# Altium footprint library ilk.PcbLib: 78 footprints (part 5 of 5)
Each footprint in its own frame and in the unit in brackets; x right, y up, seen from the top. Pads: shape width x height; smd on the part's side, far side on the other; paste and mask are expansions set on the pad; w line width, h text height; cw(c..) or ccw(c..) is an arc to the next point about the centre after c.
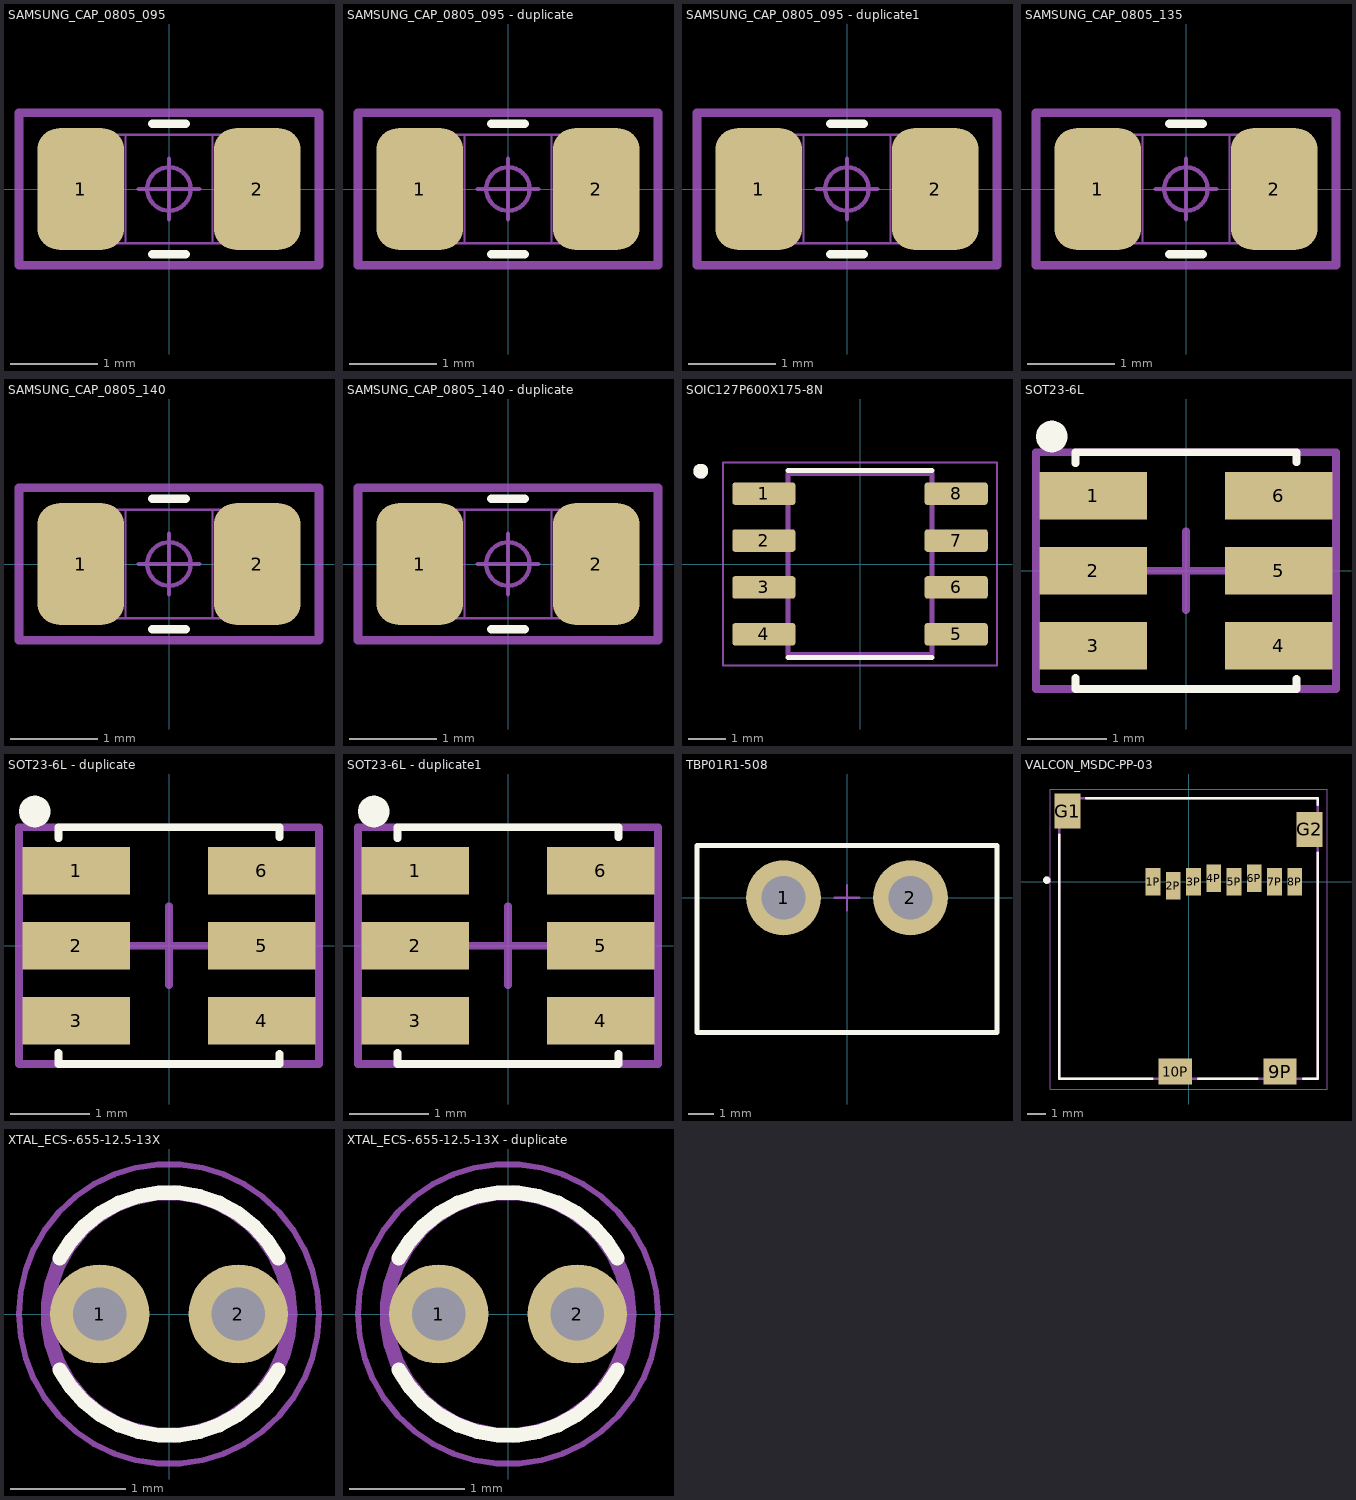
[diagram p4: the footprints below, top view; thin cyan lines are the x and y axes]

## SAMSUNG_CAP_0805_095 [mm]
pads (2):
  rrect50% 1x1.4 smd paste+0 mask+0.04: 1(-1.016,0) 2(1.016,0)
Top Overlay:
  lines w0.1: -0.192,-0.752 0.192,-0.752 ; -0.192,0.752 0.192,0.752
Mechanical 13:
  lines w0.025: -1,-0.625 -1,0.625 ; -1,-0.625 -0.5,-0.625 -0.5,0.625 -1,0.625 ; -1,-0.625 1,-0.625 ; -1,-0.625 -1,0.625 ; -1,0.625 1,0.625 ; 1,-0.625 0.5,-0.625 0.5,0.625 1,0.625 ; 1,-0.625 1,0.625 ; 1,-0.625 1,0.625
Mechanical 15:
  circle w0.05: c0,0 r0.25
  lines w0.05: -0.35,0 0.35,0 ; 0,-0.35 0,0.35
  lines w0.1: -1.727,-0.879 -1.727,0.879 1.727,0.879 1.727,-0.879 -1.727,-0.879
3D body "CAP_0805_095.step": height 0.96, standoff -0.01, extent -1,-0.635 1,0.639

## SAMSUNG_CAP_0805_095 - duplicate [mm]
pads (2):
  rrect50% 1x1.4 smd paste+0 mask+0.04: 1(-1.016,0) 2(1.016,0)
Top Overlay:
  lines w0.1: -0.192,-0.752 0.192,-0.752 ; -0.192,0.752 0.192,0.752
Mechanical 13:
  lines w0.025: -1,-0.625 -1,0.625 ; -1,-0.625 -0.5,-0.625 -0.5,0.625 -1,0.625 ; -1,-0.625 1,-0.625 ; -1,-0.625 -1,0.625 ; -1,0.625 1,0.625 ; 1,-0.625 0.5,-0.625 0.5,0.625 1,0.625 ; 1,-0.625 1,0.625 ; 1,-0.625 1,0.625
Mechanical 15:
  circle w0.05: c0,0 r0.25
  lines w0.05: -0.35,0 0.35,0 ; 0,-0.35 0,0.35
  lines w0.1: -1.727,-0.879 -1.727,0.879 1.727,0.879 1.727,-0.879 -1.727,-0.879
3D body "CAP_0805_095.step": height 0.96, standoff -0.01, extent -1,-0.635 1,0.639

## SAMSUNG_CAP_0805_095 - duplicate1 [mm]
pads (2):
  rrect50% 1x1.4 smd paste+0 mask+0.04: 1(-1.016,0) 2(1.016,0)
Top Overlay:
  lines w0.1: -0.192,-0.752 0.192,-0.752 ; -0.192,0.752 0.192,0.752
Mechanical 13:
  lines w0.025: -1,-0.625 -1,0.625 ; -1,-0.625 -0.5,-0.625 -0.5,0.625 -1,0.625 ; -1,-0.625 1,-0.625 ; -1,-0.625 -1,0.625 ; -1,0.625 1,0.625 ; 1,-0.625 0.5,-0.625 0.5,0.625 1,0.625 ; 1,-0.625 1,0.625 ; 1,-0.625 1,0.625
Mechanical 15:
  circle w0.05: c0,0 r0.25
  lines w0.05: -0.35,0 0.35,0 ; 0,-0.35 0,0.35
  lines w0.1: -1.727,-0.879 -1.727,0.879 1.727,0.879 1.727,-0.879 -1.727,-0.879
3D body "CAP_0805_095.step": height 0.96, standoff -0.01, extent -1,-0.635 1,0.639

## SAMSUNG_CAP_0805_135 [mm]
pads (2):
  rrect50% 1x1.4 smd paste+0 mask+0.04: 1(-1.016,0) 2(1.016,0)
Top Overlay:
  lines w0.1: -0.192,-0.752 0.192,-0.752 ; -0.192,0.752 0.192,0.752
Mechanical 13:
  lines w0.025: -1,-0.625 -1,0.625 ; -1,-0.625 -0.5,-0.625 -0.5,0.625 -1,0.625 ; -1,-0.625 1,-0.625 ; -1,-0.625 -1,0.625 ; -1,0.625 1,0.625 ; 1,-0.625 0.5,-0.625 0.5,0.625 1,0.625 ; 1,-0.625 1,0.625 ; 1,-0.625 1,0.625
Mechanical 15:
  circle w0.05: c0,0 r0.25
  lines w0.05: -0.35,0 0.35,0 ; 0,-0.35 0,0.35
  lines w0.1: -1.727,-0.879 -1.727,0.879 1.727,0.879 1.727,-0.879 -1.727,-0.879
3D body "CAP_0805_135.step": height 1.36, standoff -0.01, extent -1,-0.639 1,0.635

## SAMSUNG_CAP_0805_140 [mm]
pads (2):
  rrect50% 1x1.4 smd paste+0 mask+0.04: 1(-1.016,0) 2(1.016,0)
Top Overlay:
  lines w0.1: -0.192,-0.752 0.192,-0.752 ; -0.192,0.752 0.192,0.752
Mechanical 13:
  lines w0.025: -1,-0.625 -1,0.625 ; -1,-0.625 1,-0.625 ; -1,-0.625 -0.5,-0.625 -0.5,0.625 -1,0.625 ; -1,-0.625 -1,0.625 ; -1,0.625 1,0.625 ; 1,-0.625 1,0.625 ; 1,-0.625 1,0.625 ; 1,-0.625 0.5,-0.625 0.5,0.625 1,0.625
Mechanical 15:
  circle w0.05: c0,0 r0.25
  lines w0.05: -0.35,0 0.35,0 ; 0,-0.35 0,0.35
  lines w0.1: -1.727,-0.879 1.727,-0.879 1.727,0.879 -1.727,0.879 -1.727,-0.879
3D body "CAP_0805_140.step": height 1.41, standoff -0.01, extent -1,-0.639 1,0.635

## SAMSUNG_CAP_0805_140 - duplicate [mm]
pads (2):
  rrect50% 1x1.4 smd paste+0 mask+0.04: 1(-1.016,0) 2(1.016,0)
Top Overlay:
  lines w0.1: -0.192,-0.752 0.192,-0.752 ; -0.192,0.752 0.192,0.752
Mechanical 13:
  lines w0.025: -1,-0.625 -1,0.625 ; -1,-0.625 1,-0.625 ; -1,-0.625 -0.5,-0.625 -0.5,0.625 -1,0.625 ; -1,-0.625 -1,0.625 ; -1,0.625 1,0.625 ; 1,-0.625 1,0.625 ; 1,-0.625 1,0.625 ; 1,-0.625 0.5,-0.625 0.5,0.625 1,0.625
Mechanical 15:
  circle w0.05: c0,0 r0.25
  lines w0.05: -0.35,0 0.35,0 ; 0,-0.35 0,0.35
  lines w0.1: -1.727,-0.879 1.727,-0.879 1.727,0.879 -1.727,0.879 -1.727,-0.879
3D body "CAP_0805_140.step": height 1.41, standoff -0.01, extent -1,-0.639 1,0.635

## SOIC127P600X175-8N [mm]
pads (8):
  rrect25% 1.71x0.61 smd: 1(-2.605,1.905) 2(-2.605,0.635) 3(-2.605,-0.635) 4(-2.605,-1.905) 5(2.605,-1.905) 6(2.605,-0.635) 7(2.605,0.635) 8(2.605,1.905)
Top Overlay:
  circle w0.2: c-4.315,2.515 r0.1
  lines w0.127: -1.95,-2.53 1.95,-2.53 ; -1.95,2.53 1.95,2.53
Mechanical 13:
  circle w0.2: c-4.315,2.515 r0.1
  lines w0.127: -1.95,-2.45 -1.95,2.45 1.95,2.45 1.95,-2.45 -1.95,-2.45
Mechanical 15:
  lines w0.05: -3.71,-2.75 -3.71,2.75 3.71,2.75 3.71,-2.75 -3.71,-2.75
3D body "step_temp.STEP": height 1.73, standoff 0, extent -3,-2.445 3,2.445

## SOT23-6L [mm]
pads (6):
  rect 1.36x0.6 smd mask+0.05: 1(-1.175,0.95) 2(-1.175,0) 3(-1.175,-0.95) 4(1.175,-0.95) 5(1.175,0) 6(1.175,0.95)
Top Overlay:
  circle w0.2: c-1.7,1.7 r0.1
  lines w0.1: -1.4,-1.361 -1.4,-1.5 -1.3,-1.5 1.4,-1.5 1.4,-1.374 ; -1.4,1.361 -1.4,1.5 -1.3,1.5 1.4,1.5 1.4,1.374
Top Component Center:
  lines w0.1: -0.5,0 0.5,0 ; 0,-0.5 0,0.5 ; -1.9,-1.5 1.9,-1.5 1.9,1.5 -1.9,1.5 -1.9,-1.5
Top Designator:
  lines w0.1: -1.9,-1.5 1.9,-1.5 1.9,1.5 -1.9,1.5 -1.9,-1.5
  text "'.Designator'" at -1.88,-0.713 h1.4
3D body "USBLC6-2SC6.STEP": height 1.45, standoff 0, extent -1.4,-1.463 1.4,1.462

## SOT23-6L - duplicate [mm]
pads (6):
  rect 1.36x0.6 smd mask+0.05: 1(-1.175,0.95) 2(-1.175,0) 3(-1.175,-0.95) 4(1.175,-0.95) 5(1.175,0) 6(1.175,0.95)
Top Overlay:
  circle w0.2: c-1.7,1.7 r0.1
  lines w0.1: -1.4,-1.361 -1.4,-1.5 -1.3,-1.5 1.4,-1.5 1.4,-1.374 ; -1.4,1.361 -1.4,1.5 -1.3,1.5 1.4,1.5 1.4,1.374
Top Component Center:
  lines w0.1: -0.5,0 0.5,0 ; 0,-0.5 0,0.5 ; -1.9,-1.5 1.9,-1.5 1.9,1.5 -1.9,1.5 -1.9,-1.5
Top Designator:
  lines w0.1: -1.9,-1.5 1.9,-1.5 1.9,1.5 -1.9,1.5 -1.9,-1.5
  text "'.Designator'" at -1.88,-0.713 h1.4
3D body "USBLC6-2SC6.STEP": height 1.45, standoff 0, extent -1.4,-1.463 1.4,1.462

## SOT23-6L - duplicate1 [mm]
pads (6):
  rect 1.36x0.6 smd mask+0.05: 1(-1.175,0.95) 2(-1.175,0) 3(-1.175,-0.95) 4(1.175,-0.95) 5(1.175,0) 6(1.175,0.95)
Top Overlay:
  circle w0.2: c-1.7,1.7 r0.1
  lines w0.1: -1.4,-1.361 -1.4,-1.5 -1.3,-1.5 1.4,-1.5 1.4,-1.374 ; -1.4,1.361 -1.4,1.5 -1.3,1.5 1.4,1.5 1.4,1.374
Top Component Center:
  lines w0.1: -0.5,0 0.5,0 ; 0,-0.5 0,0.5 ; -1.9,-1.5 1.9,-1.5 1.9,1.5 -1.9,1.5 -1.9,-1.5
Top Designator:
  lines w0.1: -1.9,-1.5 1.9,-1.5 1.9,1.5 -1.9,1.5 -1.9,-1.5
  text "'.Designator'" at -1.88,-0.713 h1.4
3D body "USBLC6-2SC6.STEP": height 1.45, standoff 0, extent -1.4,-1.463 1.4,1.462

## TBP01R1-508 [mm]
pads (2):
  round 3 hole 1.75 mask+0.05: 1(-2.54,0) 2(2.54,0)
Top Overlay:
  lines w0.2: -6,-5.4 6,-5.4 6,-2.2 6,2.1 -6,2.1 -6,-5.4
Top Component Center:
  lines w0.1: -0.5,0 0.5,0 ; 0,-0.5 0,0.5 ; -6,-5.4 6,-5.4 6,2.1 -6,2.1 -6,-5.4
Top Designator:
  lines w0.1: -6,-5.4 6,-5.4 6,2.1 -6,2.1 -6,-5.4
  text "'.Designator'" at -3.746,-1.738 h1.52
3D body "CUI_DEVICES_TBP01R1-508-02BE.step": height 8.55, standoff -3.95, extent -5.88,-10 5.88,2

## VALCON_MSDC-PP-03 [mm]
pads (12):
  rect 0.8x1.5 smd: 1P(-1.925,0) 2P(-0.825,-0.2) 3P(0.275,0) 4P(1.375,0.2) 5P(2.475,0) 6P(3.575,0.2) 7P(4.675,0) 8P(5.775,0)
  rect 1.8x1.4 smd: 9P(4.975,-10.3) 10P(-0.725,-10.3)
  rect 1.4x1.9 smd: G1(-6.575,3.85) G2(6.575,2.85)
Top Overlay:
  circle w0.2: c-7.7,0.1 r0.1
  lines w0.127: -7.025,2.58 -7.025,-10.7 -1.97,-10.7 ; -5.55,4.55 7.025,4.55 7.025,4.2 ; 0.52,-10.7 3.73,-10.7 ; 6.22,-10.7 7.025,-10.7 7.025,1.58
Mechanical 13:
  circle w0.2: c-7.7,0.1 r0.1
  lines w0.127: -7.025,-10.7 -7.025,4.55 7.025,4.55 7.025,-10.7 -7.025,-10.7
Mechanical 15:
  lines w0.05: -7.525,-11.25 -7.525,5.05 7.525,5.05 7.525,-11.25 -7.525,-11.25
3D body "step_temp.STEP": height 1.85, standoff -0.03, extent -7.025,-7.625 7.025,7.625

## XTAL_ECS-.655-12.5-13X [mm]
pads (2):
  round 0.86 hole 0.46: 1(-0.6,0) 2(0.6,0)
Top Overlay:
  lines w0.127: -0.948,-0.484 ccw(c0,0.02) 0.948,-0.484 ; -0.948,0.484 cw(c0,-0.02) 0.948,0.484
Mechanical 13:
  circle w0.127: c0,0 r1.05
  circle w0.127: c0,0 r1.05
Mechanical 15:
  circle w0.05: c0,0 r1.3
3D body "step_temp.STEP": height 6.2, standoff -10, extent -1.05,-1.05 1.05,1.05

## XTAL_ECS-.655-12.5-13X - duplicate [mm]
pads (2):
  round 0.86 hole 0.46: 1(-0.6,0) 2(0.6,0)
Top Overlay:
  lines w0.127: -0.948,-0.484 ccw(c0,0.02) 0.948,-0.484 ; -0.948,0.484 cw(c0,-0.02) 0.948,0.484
Mechanical 13:
  circle w0.127: c0,0 r1.05
  circle w0.127: c0,0 r1.05
Mechanical 15:
  circle w0.05: c0,0 r1.3
3D body "step_temp.STEP": height 6.2, standoff -10, extent -1.05,-1.05 1.05,1.05